# Altium footprint library Button1.PcbLib: 1 footprints
Each footprint in its own frame and in the unit in brackets; x right, y up, seen from the top. Pads: shape width x height; smd on the part's side, far side on the other; paste and mask are expansions set on the pad; w line width, h text height; cw(c..) or ccw(c..) is an arc to the next point about the centre after c.
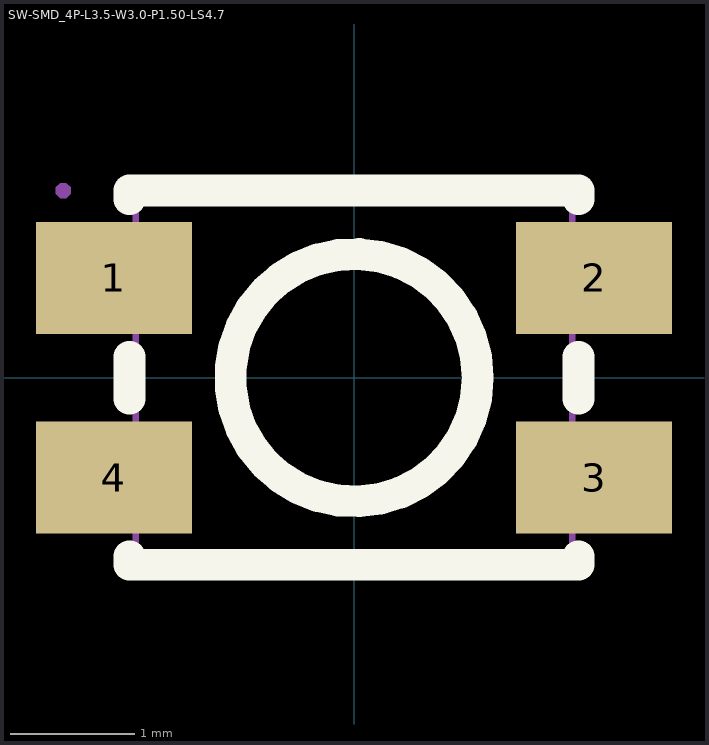
[diagram p0: the footprint, top view; thin cyan lines are the x and y axes]

## SW-SMD_4P-L3.5-W3.0-P1.50-LS4.7 [mm]
pads (4):
  rect 1.25x0.9 smd: 1(-1.925,0.8) 2(1.925,0.8) 3(1.925,-0.8) 4(-1.925,-0.8)
Top Overlay:
  circle w0.254: c0,0 r0.992
  lines w0.254: -1.8,-1.431 -1.8,-1.5 1.8,-1.5 1.8,-1.431 ; -1.8,-0.169 -1.8,0.169 ; -1.8,1.431 -1.8,1.5 1.8,1.5 1.8,1.431 ; 1.8,-0.169 1.8,0.169
Mechanical 15:
  region: -1.75,-0.55 -1.75,-1.05 -2.33,-1.05 -2.33,-0.55
  region: -1.75,1.05 -1.75,0.55 -2.33,0.55 -2.33,1.05
  region: 2.32,-0.55 2.32,-1.05 1.74,-1.05 1.74,-0.55
  region: 2.32,1.05 2.32,0.55 1.74,0.55 1.74,1.05
  region: -2.27,1.5 -2.27,1.475 -2.305,1.44 -2.355,1.44 -2.39,1.475 -2.39,1.5 -2.39,1.525 -2.355,1.56 -2.305,1.56 -2.27,1.525 -2.27,1.5
  lines w0.051: -1.75,-1.5 -1.75,1.5 1.75,1.5 1.75,-1.5 -1.75,-1.5